# Altium schematic symbol library BSS138.SchLib: 2 symbols
Pins are listed as number, name and electrical type; pins without a type are passive.

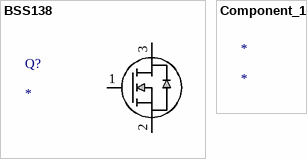
[diagram p0: symbols BSS138 to Component_1]

## BSS138
designator Q?
No Description Available; Mfr_Name: onsemi / Fairchild Semiconductor; RefDes: RefDes; Type: Type
footprint SOT-23_3L_ONS
pins: 1, 2, 3

## Component_1
designator *